# EAGLE library part S15P (library con-amp-mt)
AMP MT CONNECTOR
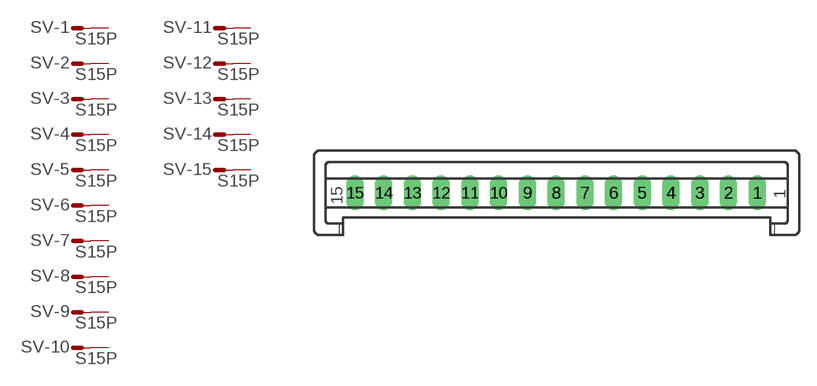
[diagram p24: symbol with the pads of S15P; footprint S15P]

Designator prefix SV; gates -1=M -2=M -3=M -4=M -5=M -6=M -7=M -8=M -9=M -10=M -11=M -12=M -13=M -14=M -15=M

## S15P  [S15P]
1  -1:S  pas
2  -2:S  pas
3  -3:S  pas
4  -4:S  pas
5  -5:S  pas
6  -6:S  pas
7  -7:S  pas
8  -8:S  pas
9  -9:S  pas
10  -10:S  pas
11  -11:S  pas
12  -12:S  pas
13  -13:S  pas
14  -14:S  pas
15  -15:S  pas

## Footprint S15P (pad centres in mm)
AMP MT CONNECTOR
drill 1.016 long: 1 17.5,0; 2 15,0; 3 12.5,0; 4 10,0; 5 7.5,0; 6 5,0; 7 2.5,0; 8 0,0; 9 -2.5,0; 10 -5,0; 11 -7.5,0; 12 -10,0; 13 -12.5,0; 14 -15,0; 15 -17.5,0